# Altium footprint library ACS711.PcbLib: 6 footprints
Each footprint in its own frame and in the unit in brackets; x right, y up, seen from the top. Pads: shape width x height; smd on the part's side, far side on the other; paste and mask are expansions set on the pad; w line width, h text height; cw(c..) or ccw(c..) is an arc to the next point about the centre after c.
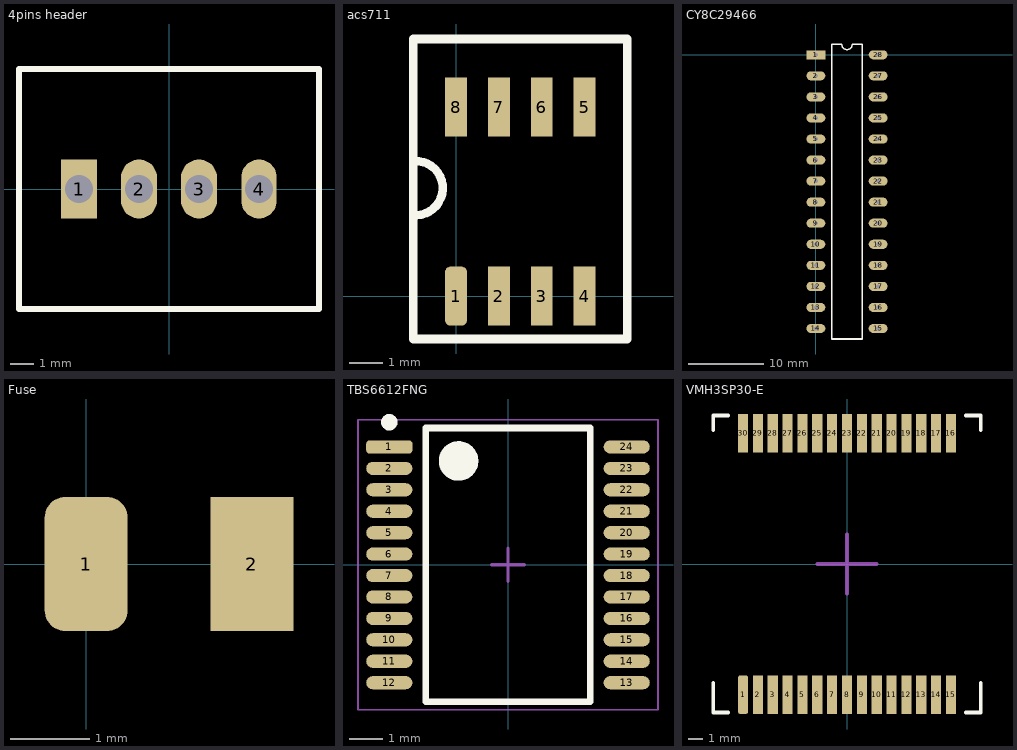
[diagram p0: the footprints below, top view; thin cyan lines are the x and y axes]

## 4pins header [mm]
pads (4):
  rect 1.524x2.5 hole 1.2: 1(-3.81,0)
  oval 1.524x2.5 hole 1.2: 2(-1.27,0) 3(1.27,0)
  oval 1.5x2.5 hole 1.2: 4(3.81,0)
Top Overlay:
  lines w0.254: -6.35,-5.08 6.35,-5.08 6.35,5.08 -6.35,5.08 -6.35,0 -6.35,-5.08
3D body "4187.stp": height 11.14, standoff -3.08, extent -5.016,-1.178 4.89,1.158

## acs711 [mm] "SOICN"
pads (8):
  rrect50% 0.65x1.75 smd: 1(0,0)
  rect 0.65x1.75 smd: 2(1.27,0) 3(2.54,0) 4(3.81,0) 5(3.81,5.6) 6(2.54,5.6) 7(1.27,5.6) 8(0,5.6)
Top Overlay:
  lines w0.254: -1.17,2.4 ccw(c-1.197,3.203) -1.1,4 ; -1.27,-1.27 5.08,-1.27 5.08,7.62 -1.27,7.62 -1.27,-1.27
3D body "SOIC8.SLDPRT": height 1.75, standoff -0.01, extent -0.6,-0.299 4.4,5.9

## CY8C29466 [mm]
pads (28):
  rect 2.5x1.2 hole 0.5: 1(0,0)
  oval 2.5x1.2 hole 0.5: 2(0,-2.79) 3(0,-5.58) 4(0,-8.37) 5(0,-11.16) 6(0,-13.95) 7(0,-16.74) 8(0,-19.53) 9(0,-22.32) 10(0,-25.11) 11(0,-27.9) 12(0,-30.69) 13(0,-33.48) 14(0,-36.27) 15(8.25,-36.27) 16(8.25,-33.48) 17(8.25,-30.69) 18(8.25,-27.9) 19(8.25,-25.11) 20(8.25,-22.32) 21(8.25,-19.53) 22(8.25,-16.74) 23(8.25,-13.95) 24(8.25,-11.16) 25(8.25,-8.37) 26(8.25,-5.58) 27(8.25,-2.79) 28(8.25,0)
Top Overlay:
  lines w0.2: 2.085,-37.665 2.085,1.395 3.427,1.395 ccw(c4.125,1.395) 4.822,1.395 6.165,1.395 6.165,-37.665 2.085,-37.665

## Fuse [mm]
pads (2):
  rrect50% 1.05x1.7 smd: 1(0,0)
  rect 1.05x1.7 smd: 2(2.1,0)
3D body "mf-nsmf020x.stp": height 0.5, standoff -0.13, extent -0.525,-0.8 2.725,0.8

## TBS6612FNG [mm] "TBS6612FNG SSOP"
height 1.6
pads (24):
  rrect50% 1.4x0.4 smd: 1(-3.6,3.575)
  oval 1.4x0.4 smd: 2(-3.6,2.925) 3(-3.6,2.275) 4(-3.6,1.625) 5(-3.6,0.975) 6(-3.6,0.325) 7(-3.6,-0.325) 8(-3.6,-0.975) 9(-3.6,-1.625) 10(-3.6,-2.275) 11(-3.6,-2.925) 12(-3.6,-3.575) 13(3.6,-3.575) 14(3.6,-2.925) 15(3.6,-2.275) 16(3.6,-1.625) 17(3.6,-0.975) 18(3.6,-0.325) 19(3.6,0.325) 20(3.6,0.975) 21(3.6,1.625) 22(3.6,2.275) 23(3.6,2.925) 24(3.6,3.575)
Top Overlay:
  circle w0.6: c-1.5,3.15 r0.3
  circle w0.25: c-3.6,4.325 r0.125
  lines w0.2: -2.5,-4.15 2.5,-4.15 2.5,4.15 -2.5,4.15 -2.5,-4.15
Mechanical 15:
  lines w0.05: -4.55,-4.4 4.55,-4.4 4.55,4.4 -4.55,4.4 -4.55,-4.4
  lines w0.1: -0.5,0 0.5,0 ; 0,-0.5 0,0.5
3D body "SSOP 24 PIN_.step": height 1.98, standoff -0.01, extent -4.05,-4.315 3.85,4.315

## VMH3SP30-E [mm]
pads (30):
  rrect50% 0.68x2.6 smd: 1(-7,-8.8)
  rect 0.68x2.6 smd: 2(-6,-8.8) 3(-5,-8.8) 4(-4,-8.8) 5(-3,-8.8) 6(-2,-8.8) 7(-1,-8.8) 8(0,-8.8) 9(1,-8.8) 10(2,-8.8) 11(3,-8.8) 12(4,-8.8) 13(5,-8.8) 14(6,-8.8) 15(7,-8.8) 16(7,8.8) 17(6,8.8) 18(5,8.8) 19(4,8.8) 20(3,8.8) 21(2,8.8) 22(1,8.8) 23(0,8.8) 24(-1,8.8) 25(-2,8.8) 26(-3,8.8) 27(-4,8.8) 28(-5,8.8) 29(-6,8.8) 30(-7,8.8)
Top Overlay:
  lines w0.254: -9,-8 -9,-10 -8,-10 ; -9,9 -9,10 -8,10 ; 8,-10 9,-10 9,-8 ; 8,10 9,10 9,9
Mechanical 15:
  lines w0.254: -2,0 2,0 ; 0,-2 0,2
3D body "SW3dPS-PowSO30-ST.STEP": height 2.37, standoff -0.09, extent -8.6,-9.3 8.6,9.7